# EAGLE library part MH5-2 (library Domino)
2x5 Pin Male Header
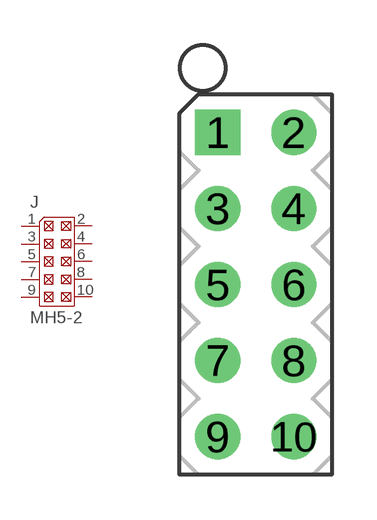
[diagram p7: symbol with the pads of MH05-2-0.1; footprint MH05-2-0.1]

Designator prefix J

## MH5-2  [MH05-2-0.1]
1  1  pas
2  2  pas
3  3  pas
4  4  pas
5  5  pas
6  6  pas
7  7  pas
8  8  pas
9  9  pas
10  10  pas

## Footprint MH05-2-0.1 (pad centres in mm)
2x5 Pin Male Header, 0.1" Pitch
drill 1 square: 1 -1.27,5.08
drill 1: 2 1.27,5.08; 3 -1.27,2.54; 4 1.27,2.54; 5 -1.27,0; 6 1.27,0; 7 -1.27,-2.54; 8 1.27,-2.54; 9 -1.27,-5.08; 10 1.27,-5.08